# EAGLE library part MT25QL128ABA1EW7 (library milliLearn-ice40)
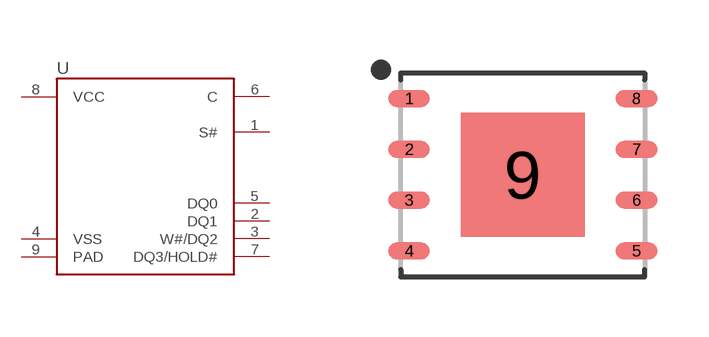
[diagram p3: symbol with the pads of MT25QL128ABA1EW7; footprint MT25QL128ABA1EW7]

Designator prefix U

## MT25QL128ABA1EW7  [MT25QL128ABA1EW7]
1  S#
2  DQ1
3  W#/DQ2
4  VSS
5  DQ0
6  C
7  DQ3/HOLD#
8  VCC
9  PAD

## Footprint MT25QL128ABA1EW7 (pad centres in mm)
8-SON (DFN), 1.27 mm pitch, 5.00 X 6.00 X 0.85 mm body, 3.10 X 3.10 mm thermal pad 8-pin SON (DFN) package with 1.27 mm pitch with body size 5.00 X 6.00 X 0.85 mm and thermal pad size 3.10 X 3.10 mm
smd 1.038 x 0.42: 1 -2.846,1.905; 2 -2.846,0.635; 3 -2.846,-0.635; 4 -2.846,-1.905; 5 2.846,-1.905; 6 2.846,-0.635; 7 2.846,0.635; 8 2.846,1.905
smd 3.1 x 3.1: 9 0,0